# Altium footprint library 排针-排母.PcbLib: 118 footprints (part 2 of 8)
Each footprint in its own frame and in the unit in brackets; x right, y up, seen from the top. Pads: shape width x height; smd on the part's side, far side on the other; paste and mask are expansions set on the pad; w line width, h text height; cw(c..) or ccw(c..) is an arc to the next point about the centre after c.
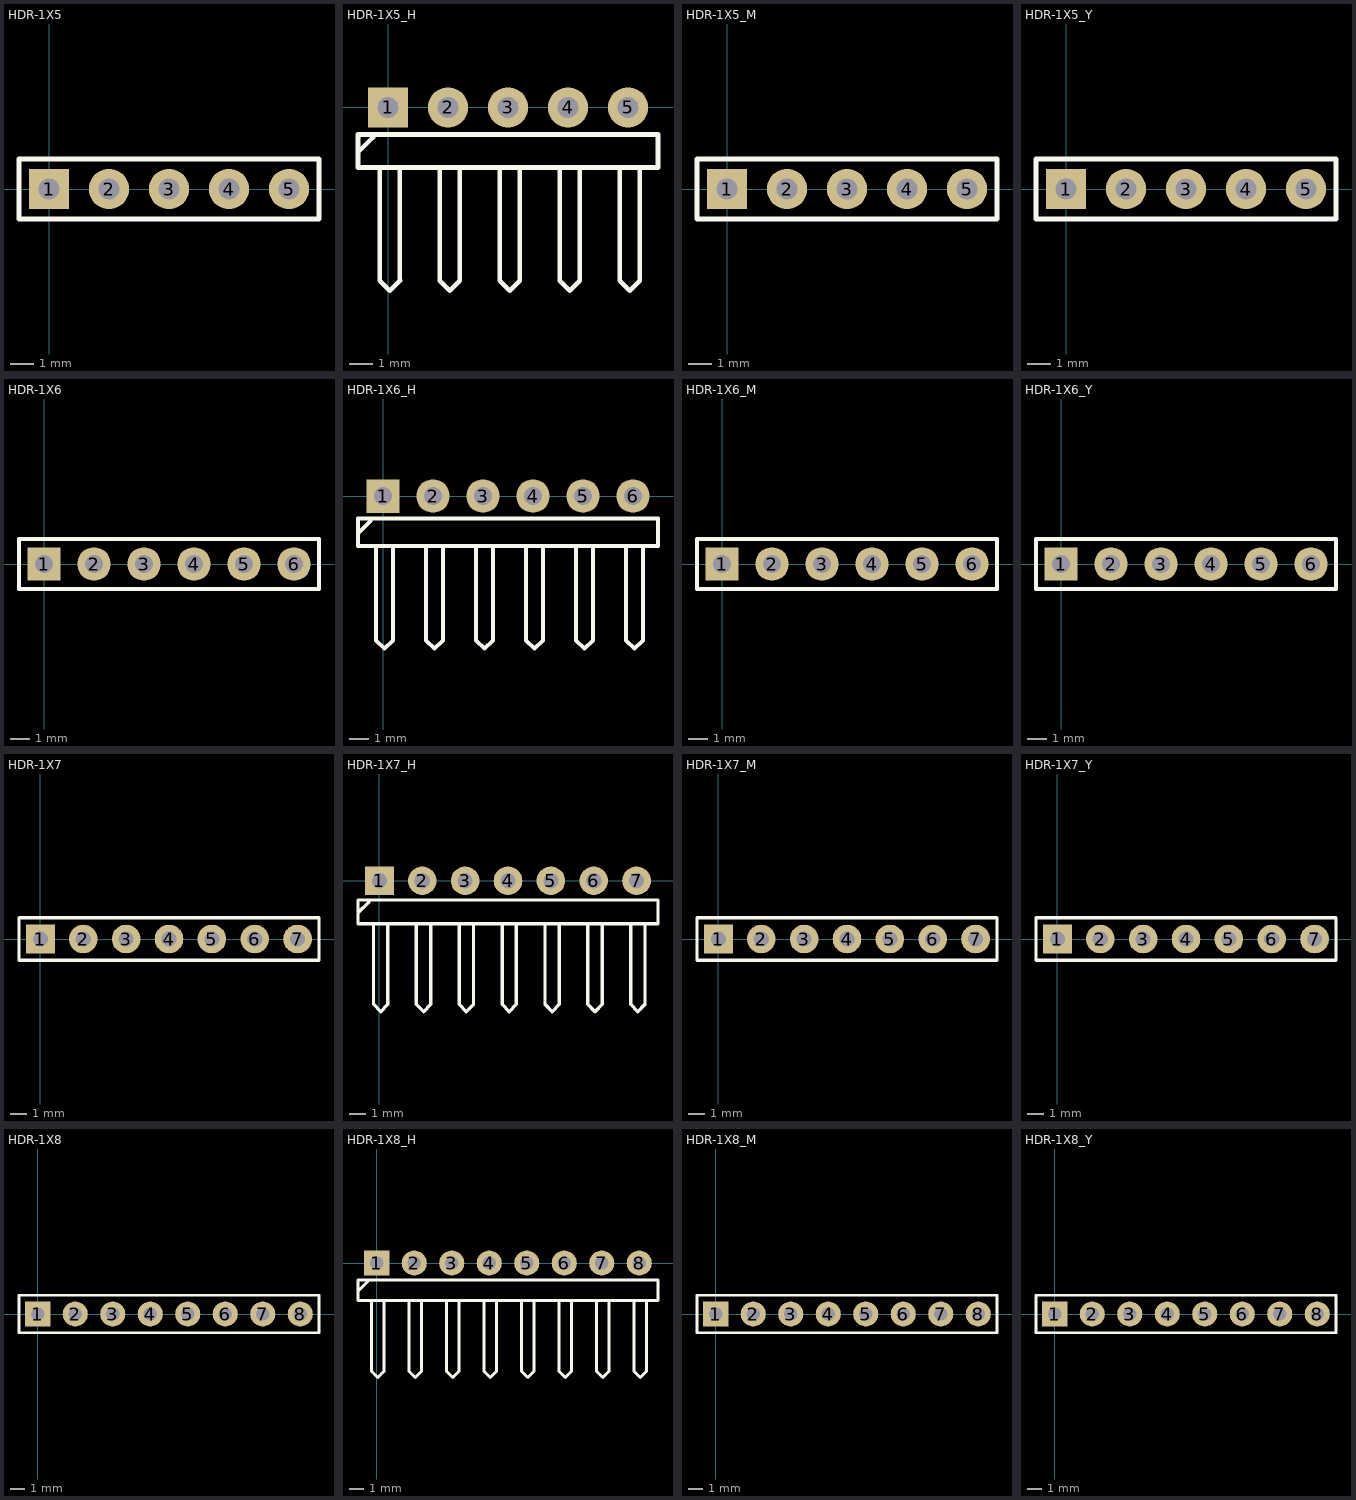
[diagram p1: the footprints below, top view; thin cyan lines are the x and y axes]

## HDR-1X5 [mm] "排针，5脚"
pads (5):
  rect 1.7x1.7 hole 0.9: 1(0,0)
  round 1.7 hole 0.9: 2(2.54,0) 3(5.08,0) 4(7.62,0) 5(10.16,0)
Top Overlay:
  lines w0.2: -1.27,-1.27 -1.27,1.27 11.43,1.27 11.43,-1.27 -1.27,-1.27
3D body: height 8.5, standoff -3, extent 8.89,-1.27 11.43,1.27
3D body: height 8.5, standoff -3, extent 3.81,-1.27 6.35,1.27
3D body: height 8.5, standoff -3, extent 6.35,-1.27 8.89,1.27
3D body: height 8.5, standoff -3, extent -1.27,-1.27 1.27,1.27
3D body: height 8.5, standoff -3, extent 1.27,-1.27 3.81,1.27

## HDR-1X5_H [mm] "弯脚排针，5脚"
pads (5):
  rect 1.7x1.7 hole 0.9: 1(0,0)
  round 1.7 hole 0.9: 2(2.54,0) 3(5.08,0) 4(7.62,0) 5(10.16,0)
Top Overlay:
  lines w0.2: -1.27,-1.905 -0.635,-1.27 ; -0.348,-2.54 -0.348,-7.332 0.075,-7.755 0.499,-7.332 0.508,-7.323 ; 0.499,-7.323 0.499,-2.54 ; 2.192,-2.54 2.192,-7.332 2.615,-7.755 3.039,-7.332 ; 3.039,-7.323 3.039,-2.54 ; 4.732,-2.54 4.732,-7.332 5.155,-7.755 5.579,-7.332 ; 5.579,-7.323 5.579,-2.54 ; 7.272,-2.54 7.272,-7.332 7.695,-7.755 8.119,-7.332 ; 8.119,-7.323 8.119,-2.54 ; 9.812,-2.54 9.812,-7.332 10.235,-7.755 10.659,-7.332 ; 10.659,-7.323 10.659,-2.54 ; -1.27,-2.54 -1.27,-1.143 0.508,-1.143 11.43,-1.143 11.43,-2.54 -1.27,-2.54
3D body: height 4.85, standoff -3, extent 8.89,-7.77 11.43,1.27
3D body: height 4.85, standoff -3, extent 6.35,-7.77 8.89,1.27
3D body: height 4.85, standoff -3, extent 3.81,-7.77 6.35,1.27
3D body: height 4.85, standoff -3, extent 1.27,-7.77 3.81,1.27
3D body: height 4.85, standoff -3, extent -1.27,-7.77 1.27,1.27

## HDR-1X5_M [mm] "排母，5脚"
pads (5):
  rect 1.7x1.7 hole 0.9: 1(0,0)
  round 1.7 hole 0.9: 2(2.54,0) 3(5.08,0) 4(7.62,0) 5(10.16,0)
Top Overlay:
  lines w0.2: -1.27,-1.27 11.43,-1.27 11.43,1.27 -1.27,1.27 -1.27,-1.27
3D body: height 8.5, standoff -3, extent 1.27,-1.27 3.81,1.27
3D body: height 8.5, standoff -3, extent -1.27,-1.27 1.27,1.27
3D body: height 8.5, standoff -3, extent 6.35,-1.27 8.89,1.27
3D body: height 8.5, standoff -3, extent 3.81,-1.27 6.35,1.27
3D body: height 8.5, standoff -3, extent 8.89,-1.27 11.43,1.27

## HDR-1X5_Y [mm] "圆孔排母，5脚"
pads (5):
  rect 1.7x1.7 hole 0.9: 1(0,0)
  round 1.7 hole 0.9: 2(2.54,0) 3(5.08,0) 4(7.62,0) 5(10.16,0)
Top Overlay:
  lines w0.2: -1.27,-1.27 11.43,-1.27 11.43,1.27 -1.27,1.27 -1.27,-1.27
3D body: height 4.31, standoff -3, extent 8.89,-1.27 11.43,1.27
3D body: height 4.31, standoff -3, extent 6.35,-1.27 8.89,1.27
3D body: height 4.31, standoff -3, extent 3.81,-1.27 6.35,1.27
3D body: height 4.31, standoff -3, extent 1.27,-1.27 3.81,1.27
3D body: height 4.31, standoff -3, extent -1.27,-1.27 1.27,1.27

## HDR-1X6 [mm] "排针，6脚"
pads (6):
  rect 1.7x1.7 hole 0.9: 1(0,0)
  round 1.7 hole 0.9: 2(2.54,0) 3(5.08,0) 4(7.62,0) 5(10.16,0) 6(12.7,0)
Top Overlay:
  lines w0.2: -1.27,-1.27 -1.27,1.27 13.97,1.27 13.97,-1.27 -1.27,-1.27
3D body: height 8.5, standoff -3, extent 11.43,-1.27 13.97,1.27
3D body: height 8.5, standoff -3, extent 8.89,-1.27 11.43,1.27
3D body: height 8.5, standoff -3, extent 6.35,-1.27 8.89,1.27
3D body: height 8.5, standoff -3, extent 3.81,-1.27 6.35,1.27
3D body: height 8.5, standoff -3, extent 1.27,-1.27 3.81,1.27
3D body: height 8.5, standoff -3, extent -1.27,-1.27 1.27,1.27

## HDR-1X6_H [mm] "弯脚排针，6脚"
pads (6):
  rect 1.7x1.7 hole 0.9: 1(0,0)
  round 1.7 hole 0.9: 2(2.54,0) 3(5.08,0) 4(7.62,0) 5(10.16,0) 6(12.7,0)
Top Overlay:
  lines w0.2: -1.27,-1.905 -0.635,-1.27 ; -0.348,-2.54 -0.348,-7.332 0.075,-7.755 0.499,-7.332 0.508,-7.323 ; 0.499,-7.323 0.499,-2.54 ; 2.192,-2.54 2.192,-7.332 2.615,-7.755 3.039,-7.332 ; 3.039,-7.323 3.039,-2.54 ; 4.732,-2.54 4.732,-7.332 5.155,-7.755 5.579,-7.332 ; 5.579,-7.323 5.579,-2.54 ; 7.272,-2.54 7.272,-7.332 7.695,-7.755 8.119,-7.332 ; 8.119,-7.323 8.119,-2.54 ; 9.812,-2.54 9.812,-7.332 10.235,-7.755 10.659,-7.332 ; 10.659,-7.323 10.659,-2.54 ; 12.352,-2.54 12.352,-7.332 12.775,-7.755 13.199,-7.332 ; 13.199,-7.323 13.199,-2.54 ; -1.27,-2.54 13.97,-2.54 13.97,-1.143 0.508,-1.143 -1.27,-1.143 -1.27,-2.54
3D body: height 4.85, standoff -3, extent -1.27,-7.77 1.27,1.27
3D body: height 4.85, standoff -3, extent 1.27,-7.77 3.81,1.27
3D body: height 4.85, standoff -3, extent 3.81,-7.77 6.35,1.27
3D body: height 4.85, standoff -3, extent 6.35,-7.77 8.89,1.27
3D body: height 4.85, standoff -3, extent 8.89,-7.77 11.43,1.27
3D body: height 4.85, standoff -3, extent 11.43,-7.77 13.97,1.27

## HDR-1X6_M [mm] "排母，6脚"
pads (6):
  rect 1.7x1.7 hole 0.9: 1(0,0)
  round 1.7 hole 0.9: 2(2.54,0) 3(5.08,0) 4(7.62,0) 5(10.16,0) 6(12.7,0)
Top Overlay:
  lines w0.2: -1.27,-1.27 13.97,-1.27 13.97,1.27 -1.27,1.27 -1.27,-1.27
3D body: height 8.5, standoff -3, extent 3.81,-1.27 6.35,1.27
3D body: height 8.5, standoff -3, extent -1.27,-1.27 1.27,1.27
3D body: height 8.5, standoff -3, extent 1.27,-1.27 3.81,1.27
3D body: height 8.5, standoff -3, extent 11.43,-1.27 13.97,1.27
3D body: height 8.5, standoff -3, extent 6.35,-1.27 8.89,1.27
3D body: height 8.5, standoff -3, extent 8.89,-1.27 11.43,1.27

## HDR-1X6_Y [mm] "圆孔排母，6脚"
pads (6):
  rect 1.7x1.7 hole 0.9: 1(0,0)
  round 1.7 hole 0.9: 2(2.54,0) 3(5.08,0) 4(7.62,0) 5(10.16,0) 6(12.7,0)
Top Overlay:
  lines w0.2: -1.27,-1.27 13.97,-1.27 13.97,1.27 -1.27,1.27 -1.27,-1.27
3D body: height 4.31, standoff -3, extent -1.27,-1.27 1.27,1.27
3D body: height 4.31, standoff -3, extent 1.27,-1.27 3.81,1.27
3D body: height 4.31, standoff -3, extent 3.81,-1.27 6.35,1.27
3D body: height 4.31, standoff -3, extent 6.35,-1.27 8.89,1.27
3D body: height 4.31, standoff -3, extent 8.89,-1.27 11.43,1.27
3D body: height 4.31, standoff -3, extent 11.43,-1.27 13.97,1.27

## HDR-1X7 [mm] "排针，8脚"
pads (7):
  rect 1.7x1.7 hole 0.9: 1(0,0)
  round 1.7 hole 0.9: 2(2.54,0) 3(5.08,0) 4(7.62,0) 5(10.16,0) 6(12.7,0) 7(15.24,0)
Top Overlay:
  lines w0.2: -1.27,-1.27 16.51,-1.27 16.51,1.27 -1.27,1.27 -1.27,-1.27
3D body: height 8.5, standoff -3, extent 13.97,-1.27 16.51,1.27
3D body: height 8.5, standoff -3, extent 11.43,-1.27 13.97,1.27
3D body: height 8.5, standoff -3, extent 8.89,-1.27 11.43,1.27
3D body: height 8.5, standoff -3, extent 6.35,-1.27 8.89,1.27
3D body: height 8.5, standoff -3, extent 3.81,-1.27 6.35,1.27
3D body: height 8.5, standoff -3, extent 1.27,-1.27 3.81,1.27
3D body: height 8.5, standoff -3, extent -1.27,-1.27 1.27,1.27

## HDR-1X7_H [mm] "弯脚排针，7脚"
pads (7):
  rect 1.7x1.7 hole 0.9: 1(0,0)
  round 1.7 hole 0.9: 2(2.54,0) 3(5.08,0) 4(7.62,0) 5(10.16,0) 6(12.7,0) 7(15.24,0)
Top Overlay:
  lines w0.2: -1.27,-1.905 -0.635,-1.27 ; -0.348,-2.54 -0.348,-7.332 0.075,-7.755 0.499,-7.332 0.508,-7.323 ; 0.499,-7.323 0.499,-2.54 ; 2.192,-2.54 2.192,-7.332 2.615,-7.755 3.039,-7.332 ; 3.039,-7.323 3.039,-2.54 ; 4.732,-2.54 4.732,-7.332 5.155,-7.755 5.579,-7.332 ; 5.579,-7.323 5.579,-2.54 ; 7.272,-2.54 7.272,-7.332 7.695,-7.755 8.119,-7.332 ; 8.119,-7.323 8.119,-2.54 ; 9.812,-2.54 9.812,-7.332 10.235,-7.755 10.659,-7.332 ; 10.659,-7.323 10.659,-2.54 ; 12.352,-2.54 12.352,-7.332 12.775,-7.755 13.199,-7.332 ; 13.199,-7.323 13.199,-2.54 ; 14.892,-2.54 14.892,-7.332 15.315,-7.755 15.739,-7.332 ; 15.739,-7.323 15.739,-2.54 ; -1.27,-2.54 16.51,-2.54 16.51,-1.143 0.508,-1.143 -1.27,-1.143 -1.27,-2.54
3D body: height 4.85, standoff -3, extent -1.27,-7.77 1.27,1.27
3D body: height 4.85, standoff -3, extent 1.27,-7.77 3.81,1.27
3D body: height 4.85, standoff -3, extent 3.81,-7.77 6.35,1.27
3D body: height 4.85, standoff -3, extent 6.35,-7.77 8.89,1.27
3D body: height 4.85, standoff -3, extent 8.89,-7.77 11.43,1.27
3D body: height 4.85, standoff -3, extent 11.43,-7.77 13.97,1.27
3D body: height 4.85, standoff -3, extent 13.97,-7.77 16.51,1.27

## HDR-1X7_M [mm] "排母，7脚"
pads (7):
  rect 1.7x1.7 hole 0.9: 1(0,0)
  round 1.7 hole 0.9: 2(2.54,0) 3(5.08,0) 4(7.62,0) 5(10.16,0) 6(12.7,0) 7(15.24,0)
Top Overlay:
  lines w0.2: -1.27,-1.27 16.51,-1.27 16.51,1.27 -1.27,1.27 -1.27,-1.27
3D body: height 8.5, standoff -3, extent 3.81,-1.27 6.35,1.27
3D body: height 8.5, standoff -3, extent -1.27,-1.27 1.27,1.27
3D body: height 8.5, standoff -3, extent 1.27,-1.27 3.81,1.27
3D body: height 8.5, standoff -3, extent 11.43,-1.27 13.97,1.27
3D body: height 8.5, standoff -3, extent 6.35,-1.27 8.89,1.27
3D body: height 8.5, standoff -3, extent 8.89,-1.27 11.43,1.27
3D body: height 8.5, standoff -3, extent 13.97,-1.27 16.51,1.27

## HDR-1X7_Y [mm] "圆孔排母，7脚"
pads (7):
  rect 1.7x1.7 hole 0.9: 1(0,0)
  round 1.7 hole 0.9: 2(2.54,0) 3(5.08,0) 4(7.62,0) 5(10.16,0) 6(12.7,0) 7(15.24,0)
Top Overlay:
  lines w0.2: -1.27,-1.27 -1.27,1.27 16.51,1.27 16.51,-1.27 -1.27,-1.27
3D body: height 4.31, standoff -3, extent 13.97,-1.27 16.51,1.27
3D body: height 4.31, standoff -3, extent 11.43,-1.27 13.97,1.27
3D body: height 4.31, standoff -3, extent 8.89,-1.27 11.43,1.27
3D body: height 4.31, standoff -3, extent 6.35,-1.27 8.89,1.27
3D body: height 4.31, standoff -3, extent 3.81,-1.27 6.35,1.27
3D body: height 4.31, standoff -3, extent 1.27,-1.27 3.81,1.27
3D body: height 4.31, standoff -3, extent -1.27,-1.27 1.27,1.27

## HDR-1X8 [mm] "排针，8脚"
pads (8):
  rect 1.7x1.7 hole 0.9: 1(0,0)
  round 1.7 hole 0.9: 2(2.54,0) 3(5.08,0) 4(7.62,0) 5(10.16,0) 6(12.7,0) 7(15.24,0) 8(17.78,0)
Top Overlay:
  lines w0.2: -1.27,-1.27 19.05,-1.27 19.05,1.27 -1.27,1.27 -1.27,-1.27
3D body: height 8.5, standoff -3, extent -1.27,-1.27 1.27,1.27
3D body: height 8.5, standoff -3, extent 1.27,-1.27 3.81,1.27
3D body: height 8.5, standoff -3, extent 3.81,-1.27 6.35,1.27
3D body: height 8.5, standoff -3, extent 6.35,-1.27 8.89,1.27
3D body: height 8.5, standoff -3, extent 8.89,-1.27 11.43,1.27
3D body: height 8.5, standoff -3, extent 13.97,-1.27 16.51,1.27
3D body: height 8.5, standoff -3, extent 11.43,-1.27 13.97,1.27
3D body: height 8.5, standoff -3, extent 16.51,-1.27 19.05,1.27

## HDR-1X8_H [mm] "弯脚排针，8脚"
pads (8):
  rect 1.7x1.7 hole 0.9: 1(0,0)
  round 1.7 hole 0.9: 2(2.54,0) 3(5.08,0) 4(7.62,0) 5(10.16,0) 6(12.7,0) 7(15.24,0) 8(17.78,0)
Top Overlay:
  lines w0.2: -1.27,-1.905 -0.635,-1.27 ; -0.348,-2.54 -0.348,-7.332 0.075,-7.755 0.499,-7.332 0.508,-7.323 ; 0.499,-7.323 0.499,-2.54 ; 2.192,-2.54 2.192,-7.332 2.615,-7.755 3.039,-7.332 ; 3.039,-7.323 3.039,-2.54 ; 4.732,-2.54 4.732,-7.332 5.155,-7.755 5.579,-7.332 ; 5.579,-7.323 5.579,-2.54 ; 7.272,-2.54 7.272,-7.332 7.695,-7.755 8.119,-7.332 ; 8.119,-7.323 8.119,-2.54 ; 9.812,-2.54 9.812,-7.332 10.235,-7.755 10.659,-7.332 ; 10.659,-7.323 10.659,-2.54 ; 12.352,-2.54 12.352,-7.332 12.775,-7.755 13.199,-7.332 ; 13.199,-7.323 13.199,-2.54 ; 14.892,-2.54 14.892,-7.332 15.315,-7.755 15.739,-7.332 ; 15.739,-7.323 15.739,-2.54 ; 17.432,-2.54 17.432,-7.332 17.855,-7.755 18.279,-7.332 ; 18.279,-7.323 18.279,-2.54 ; -1.27,-2.54 -1.27,-1.143 0.508,-1.143 19.05,-1.143 19.05,-2.54 -1.27,-2.54
3D body: height 4.85, standoff -3, extent -1.27,-7.77 1.27,1.27
3D body: height 4.85, standoff -3, extent 1.27,-7.77 3.81,1.27
3D body: height 4.85, standoff -3, extent 3.81,-7.77 6.35,1.27
3D body: height 4.85, standoff -3, extent 6.35,-7.77 8.89,1.27
3D body: height 4.85, standoff -3, extent 8.89,-7.77 11.43,1.27
3D body: height 4.85, standoff -3, extent 11.43,-7.77 13.97,1.27
3D body: height 4.85, standoff -3, extent 13.97,-7.77 16.51,1.27
3D body: height 4.85, standoff -3, extent 16.51,-7.77 19.05,1.27

## HDR-1X8_M [mm] "排母，8脚"
pads (8):
  rect 1.7x1.7 hole 0.9: 1(0,0)
  round 1.7 hole 0.9: 2(2.54,0) 3(5.08,0) 4(7.62,0) 5(10.16,0) 6(12.7,0) 7(15.24,0) 8(17.78,0)
Top Overlay:
  lines w0.2: -1.27,-1.27 -1.27,1.27 19.05,1.27 19.05,-1.27 -1.27,-1.27
3D body: height 8.5, standoff -3, extent 13.97,-1.27 16.51,1.27
3D body: height 8.5, standoff -3, extent 8.89,-1.27 11.43,1.27
3D body: height 8.5, standoff -3, extent 6.35,-1.27 8.89,1.27
3D body: height 8.5, standoff -3, extent 11.43,-1.27 13.97,1.27
3D body: height 8.5, standoff -3, extent 1.27,-1.27 3.81,1.27
3D body: height 8.5, standoff -3, extent -1.27,-1.27 1.27,1.27
3D body: height 8.5, standoff -3, extent 3.81,-1.27 6.35,1.27
3D body: height 8.5, standoff -3, extent 16.51,-1.27 19.05,1.27

## HDR-1X8_Y [mm] "圆孔排母，8脚"
pads (8):
  rect 1.7x1.7 hole 0.9: 1(0,0)
  round 1.7 hole 0.9: 2(2.54,0) 3(5.08,0) 4(7.62,0) 5(10.16,0) 6(12.7,0) 7(15.24,0) 8(17.78,0)
Top Overlay:
  lines w0.2: -1.27,-1.27 19.05,-1.27 19.05,1.27 -1.27,1.27 -1.27,-1.27
3D body: height 4.31, standoff -3, extent -1.27,-1.27 1.27,1.27
3D body: height 4.31, standoff -3, extent 1.27,-1.27 3.81,1.27
3D body: height 4.31, standoff -3, extent 3.81,-1.27 6.35,1.27
3D body: height 4.31, standoff -3, extent 6.35,-1.27 8.89,1.27
3D body: height 4.31, standoff -3, extent 8.89,-1.27 11.43,1.27
3D body: height 4.31, standoff -3, extent 11.43,-1.27 13.97,1.27
3D body: height 4.31, standoff -3, extent 13.97,-1.27 16.51,1.27
3D body: height 4.31, standoff -3, extent 16.51,-1.27 19.05,1.27